# EAGLE library part MSP430F11*1 (library msp430)
MIXED SIGNAL MICROCONTROLLER 16bit, ultra low power
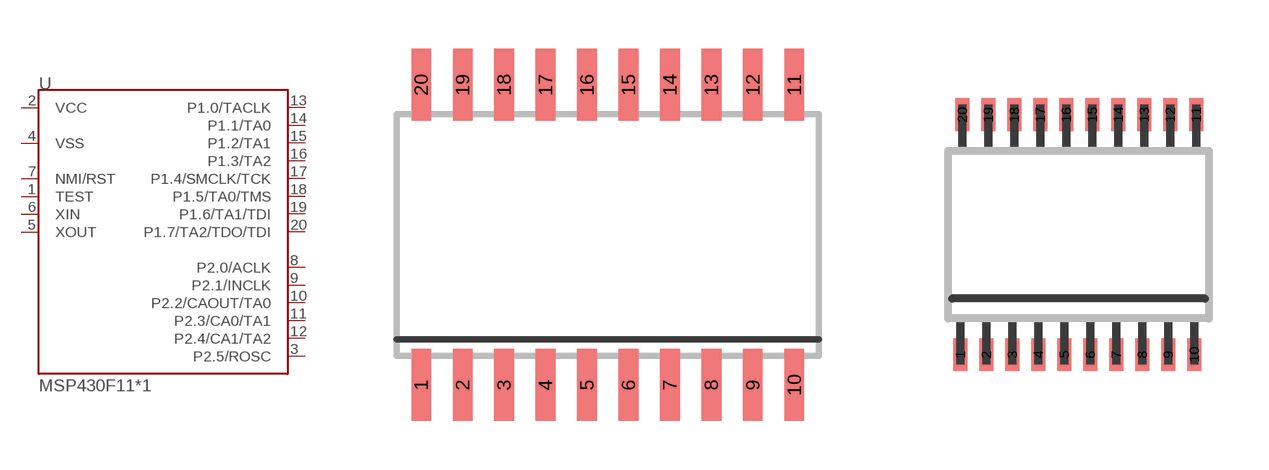
[diagram p0: symbol with the pads of SO-20DW; footprints SO-20DW, SO-20(PW)]

Designator prefix U

## MSP430F1101DW, MSP430F1111DW, MSP430F1121DW  [SO-20DW]
1  TEST
2  VCC  pwr
3  P2.5/ROSC
4  VSS  pwr
5  XOUT  pas
6  XIN  pas
7  NMI/RST  in
8  P2.0/ACLK
9  P2.1/INCLK
10  P2.2/CAOUT/TA0
11  P2.3/CA0/TA1
12  P2.4/CA1/TA2
13  P1.0/TACLK
14  P1.1/TA0
15  P1.2/TA1
16  P1.3/TA2
17  P1.4/SMCLK/TCK
18  P1.5/TA0/TMS
19  P1.6/TA1/TDI
20  P1.7/TA2/TDO/TDI

## MSP430F1101PW, MSP430F1111PW, MSP430F1121PW  [SO-20(PW)]
Pads as for SO-20DW

## MSP430F1101RGE, MSP430F1111RGE, MSP430F1121RGE  [S-PQFP-N24(RGE)]
2  VSS  pwr
3  XOUT  pas
4  XIN  pas
5  NMI/RST  in
6  P2.0/ACLK
7  P2.1/INCLK
8  P2.2/CAOUT/TA0
10  P2.3/CA0/TA1
11  P2.4/CA1/TA2
13  P1.0/TACLK
14  P1.1/TA0
15  P1.2/TA1
16  P1.3/TA2
17  P1.4/SMCLK/TCK
18  P1.5/TA0/TMS
20  P1.6/TA1/TDI
21  P1.7/TA2/TDO/TDI
22  TEST
23  VCC  pwr
24  P2.5/ROSC

## Footprint SO-20DW (pad centres in mm)
smd 0.6 x 2.2: 1 -5.715,-4.6; 2 -4.445,-4.6; 3 -3.175,-4.6; 4 -1.905,-4.6; 5 -0.635,-4.6; 6 0.635,-4.6; 7 1.905,-4.6; 8 3.175,-4.6; 9 4.445,-4.6; 10 5.715,-4.6; 11 5.715,4.6; 12 4.445,4.6; 13 3.175,4.6; 14 1.905,4.6; 15 0.635,4.6; 16 -0.635,4.6; 17 -1.905,4.6; 18 -3.175,4.6; 19 -4.445,4.6; 20 -5.715,4.6

## Footprint SO-20(PW) (pad centres in mm)
smd 0.35 x 0.813: 1 -2.95,-3; 2 -2.3,-3; 3 -1.65,-3; 4 -1,-3; 5 -0.35,-3; 6 0.3,-3; 7 0.95,-3; 8 1.6,-3; 9 2.25,-3; 10 2.9,-3; 11 2.95,3; 12 2.3,3; 13 1.65,3; 14 1,3; 15 0.35,3; 16 -0.3,3; 17 -0.95,3; 18 -1.6,3; 19 -2.25,3; 20 -2.9,3

## Footprint S-PQFP-N24(RGE) (pad centres in mm)
smd 0.8 x 0.3: 1 -2.5,1.75; 2 -2.5,1.25; 3 -2.5,0.75; 4 -2.5,0.25; 5 -2.5,-0.25; 6 -2.5,-0.75; 13 1.5,-0.75; 14 1.5,-0.25; 15 1.5,0.25; 16 1.5,0.75; 17 1.5,1.25; 18 1.5,1.75
smd 0.3 x 0.8: 7 -1.75,-1.5; 8 -1.25,-1.5; 9 -0.75,-1.5; 10 -0.25,-1.5; 11 0.25,-1.5; 12 0.75,-1.5; 19 0.75,2.5; 20 0.25,2.5; 21 -0.25,2.5; 22 -0.75,2.5; 23 -1.25,2.5; 24 -1.75,2.5